# Altium footprint library H1102NL.PcbLib: 1 footprints
Each footprint in its own frame and in the unit in brackets; x right, y up, seen from the top. Pads: shape width x height; smd on the part's side, far side on the other; paste and mask are expansions set on the pad; w line width, h text height; cw(c..) or ccw(c..) is an arc to the next point about the centre after c.
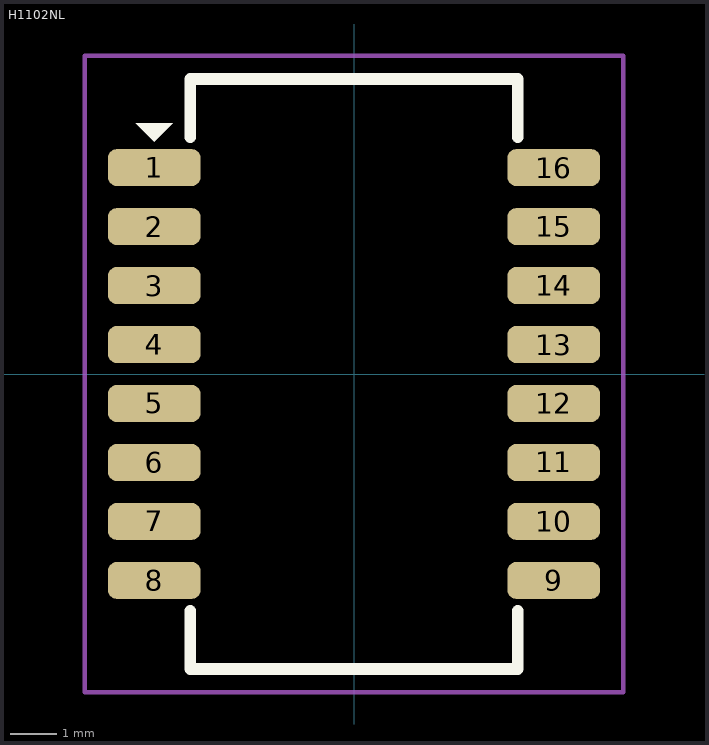
[diagram p0: the footprint, top view; thin cyan lines are the x and y axes]

## H1102NL [mm]
pads (16):
  rrect50% 2x0.8 smd: 1(-4.3,4.445) 2(-4.3,3.175) 3(-4.3,1.905) 4(-4.3,0.635) 5(-4.3,-0.635) 6(-4.3,-1.905) 7(-4.3,-3.175) 8(-4.3,-4.445) 9(4.3,-4.445) 10(4.3,-3.175) 11(4.3,-1.905) 12(4.3,-0.635) 13(4.3,0.635) 14(4.3,1.905) 15(4.3,3.175) 16(4.3,4.445)
Top Overlay:
  region: -4.7,5.4 -3.9,5.4 -4.3,5
  lines w0.25: -3.525,-5.1 -3.525,-6.35 3.525,-6.35 3.525,-5.1 ; -3.525,5.1 -3.525,6.35 3.525,6.35 3.525,5.1
Top Courtyard:
  lines w0.1: -5.8,-6.85 -3.525,-6.85 5.8,-6.85 5.8,-4.45 5.8,6.85 -5.8,6.85 -5.8,-6.85
3D body "H1102NL--3DModel-STEP-269445.STEP": height 5.97, standoff 0, extent -4.699,-6.35 4.699,6.35